# Altium footprint library 1N5819_flat.PcbLib: 1 footprints
Each footprint in its own frame and in the unit in brackets; x right, y up, seen from the top. Pads: shape width x height; smd on the part's side, far side on the other; paste and mask are expansions set on the pad; w line width, h text height; cw(c..) or ccw(c..) is an arc to the next point about the centre after c.
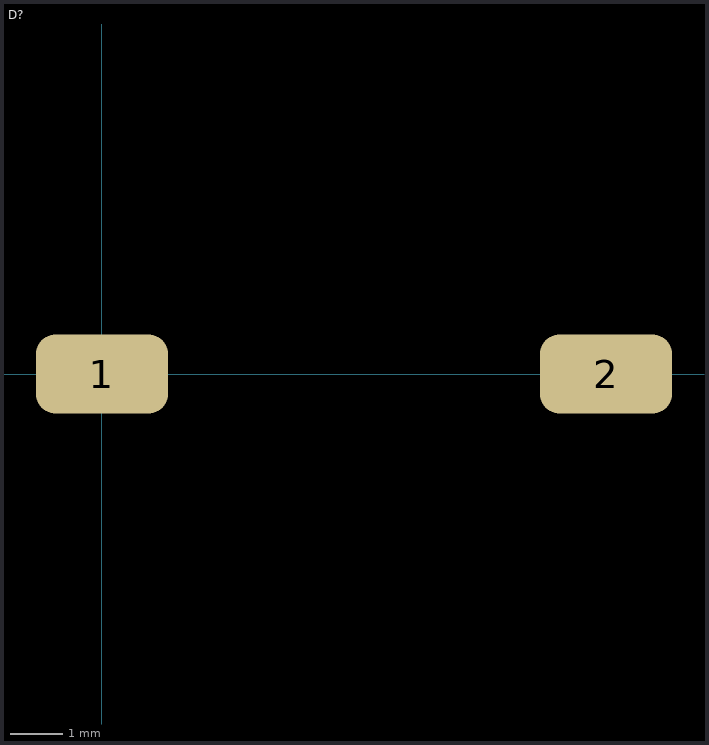
[diagram p0: the footprint, top view; thin cyan lines are the x and y axes]

## D? [mm]
pads (2):
  rrect50% 2.5x1.5 smd: 1(0,0) 2(9.525,0)
3D body "1N5819G_flat_short.SLDPRT": height 4.64, standoff 0, extent -1.237,-1.247 10.763,1.248